# Altium schematic symbol library SDIO_LevelShifter_TI_TXS02612.SchLib: 1 symbol
Pins are listed as number, name and electrical type; pins without a type are passive.

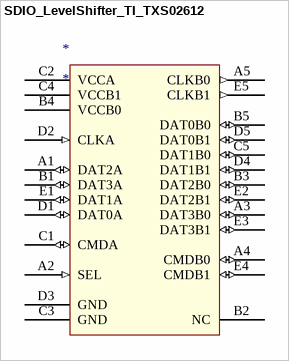
[diagram p0: symbol SDIO_LevelShifter_TI_TXS02612]

## SDIO_LevelShifter_TI_TXS02612
designator *
pins: A1 DAT2A (io), A2 SEL (in), A3 DAT3B0 (io), A4 CMDB0 (io), A5 CLKB0 (out), B1 DAT3A (io), B2 NC, B3 DAT2B0 (io), B4 VCCB0 (power), B5 DAT0B0 (io), C1 CMDA (io), C2 VCCA (power), C3 GND (power), C4 VCCB1 (power), C5 DAT1B0 (io), D1 DAT0A (io), D2 CLKA (in), D3 GND (power), D4 DAT1B1 (io), D5 DAT0B1 (io), E1 DAT1A (io), E2 DAT2B1 (io), E3 DAT3B1 (io), E4 CMDB1 (io), E5 CLKB1 (out)